# Altium schematic symbol library op-amp.SCHLIB: 32 symbols
Pins are listed as number, name and electrical type; pins without a type are passive.

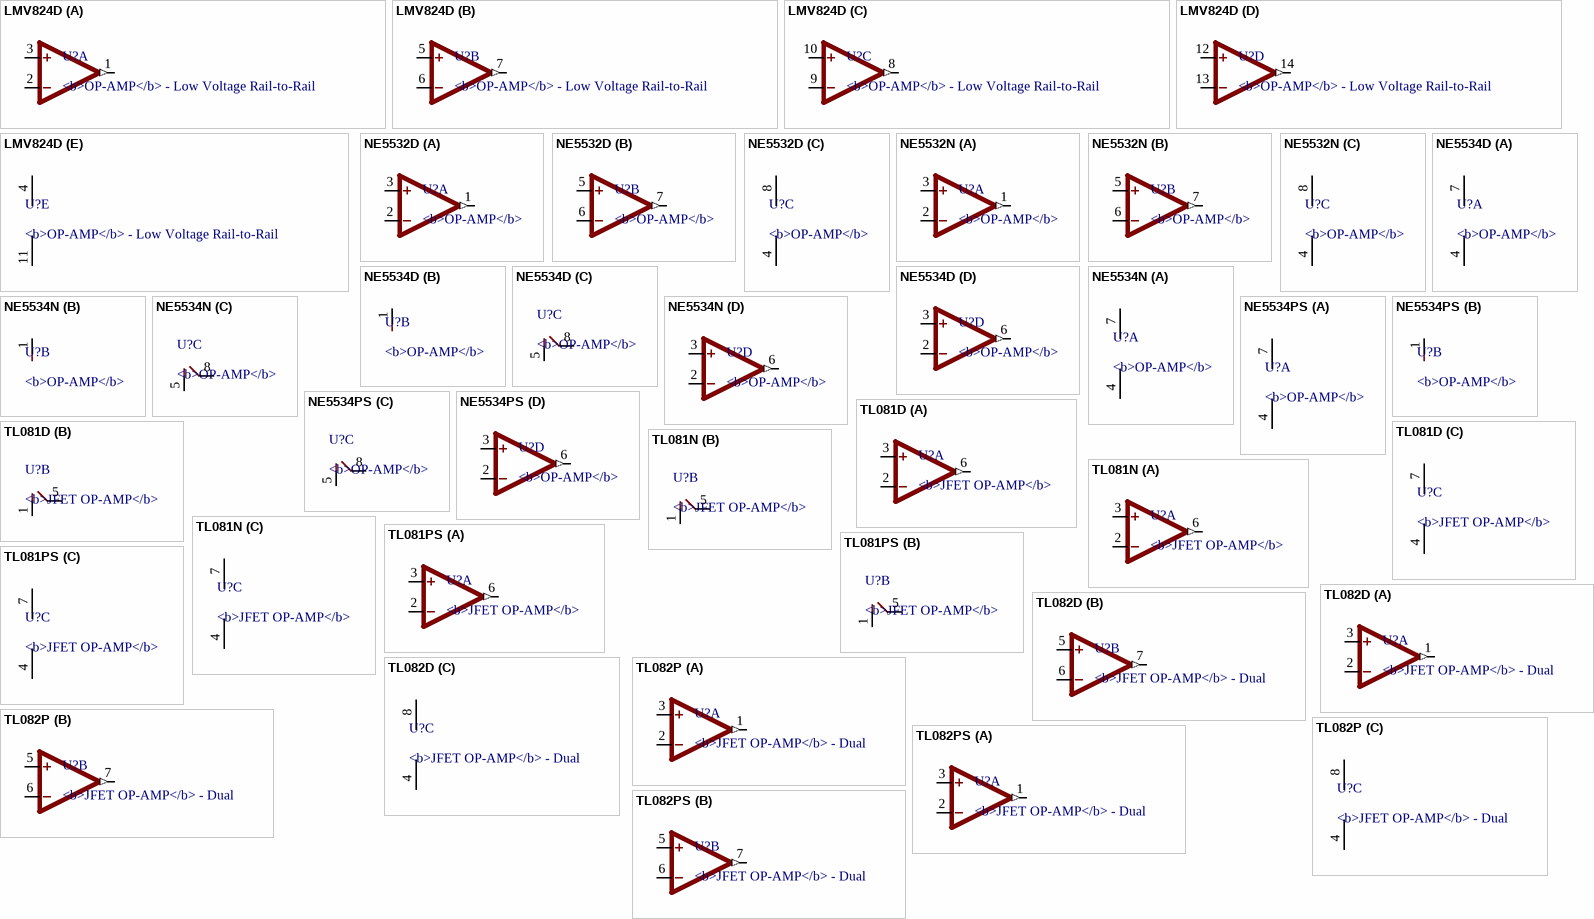
[diagram p0: symbols LMV824D to TL082PS]

## LMV824D
designator U?, comment <b>OP-AMP</b> - Low Voltage Rail-to-Rail
footprint SO14
part A pins: 1 OUT (out), 2 -IN, 3 +IN
part B pins: 5 +IN, 6 -IN, 7 OUT (out)
part C pins: 8 OUT (out), 9 -IN, 10 +IN
part D pins: 12 +IN, 13 -IN, 14 OUT (out)
part E pins: 4 VCC+ (power), 11 VCC- (power)

## NE5532D
designator U?, comment <b>OP-AMP</b>
footprint SO08
part A pins: 1 OUT (out), 2 -IN, 3 +IN
part B pins: 5 +IN, 6 -IN, 7 OUT (out)
part C pins: 4 V- (power), 8 V+ (power)

## NE5532N
designator U?, comment <b>OP-AMP</b>
footprint DIL08
part A pins: 1 OUT (out), 2 -IN, 3 +IN
part B pins: 5 +IN, 6 -IN, 7 OUT (out)
part C pins: 4 V- (power), 8 V+ (power)

## NE5534D
designator U?, comment <b>OP-AMP</b>
footprint SO08
part A pins: 4 V- (power), 7 V+ (power)
part B pins: 1 BAL
part C pins: 5 CMP, 8 BAL/CMP
part D pins: 2 -IN, 3 +IN, 6 OUT (out)

## NE5534N
designator U?, comment <b>OP-AMP</b>
footprint DIL08
part A pins: 4 V- (power), 7 V+ (power)
part B pins: 1 BAL
part C pins: 5 CMP, 8 BAL/CMP
part D pins: 2 -IN, 3 +IN, 6 OUT (out)

## NE5534PS
designator U?, comment <b>OP-AMP</b>
footprint SOP08
part A pins: 4 V- (power), 7 V+ (power)
part B pins: 1 BAL
part C pins: 5 CMP, 8 BAL/CMP
part D pins: 2 -IN, 3 +IN, 6 OUT (out)

## TL081D
designator U?, comment <b>JFET OP-AMP</b>
footprint SO08
part A pins: 2 -IN, 3 +IN, 6 OUT (out)
part B pins: 1 NULL1, 5 NULL2
part C pins: 4 V- (power), 7 V+ (power)

## TL081N
designator U?, comment <b>JFET OP-AMP</b>
footprint DIL08
part A pins: 2 -IN, 3 +IN, 6 OUT (out)
part B pins: 1 NULL1, 5 NULL2
part C pins: 4 V- (power), 7 V+ (power)

## TL081PS
designator U?, comment <b>JFET OP-AMP</b>
footprint SO08
part A pins: 2 -IN, 3 +IN, 6 OUT (out)
part B pins: 1 NULL1, 5 NULL2
part C pins: 4 V- (power), 7 V+ (power)

## TL082D
designator U?, comment <b>JFET OP-AMP</b> - Dual
footprint SO08
part A pins: 1 OUT (out), 2 -IN, 3 +IN
part B pins: 5 +IN, 6 -IN, 7 OUT (out)
part C pins: 4 V- (power), 8 V+ (power)

## TL082P
designator U?, comment <b>JFET OP-AMP</b> - Dual
footprint DIL08
part A pins: 1 OUT (out), 2 -IN, 3 +IN
part B pins: 5 +IN, 6 -IN, 7 OUT (out)
part C pins: 4 V- (power), 8 V+ (power)

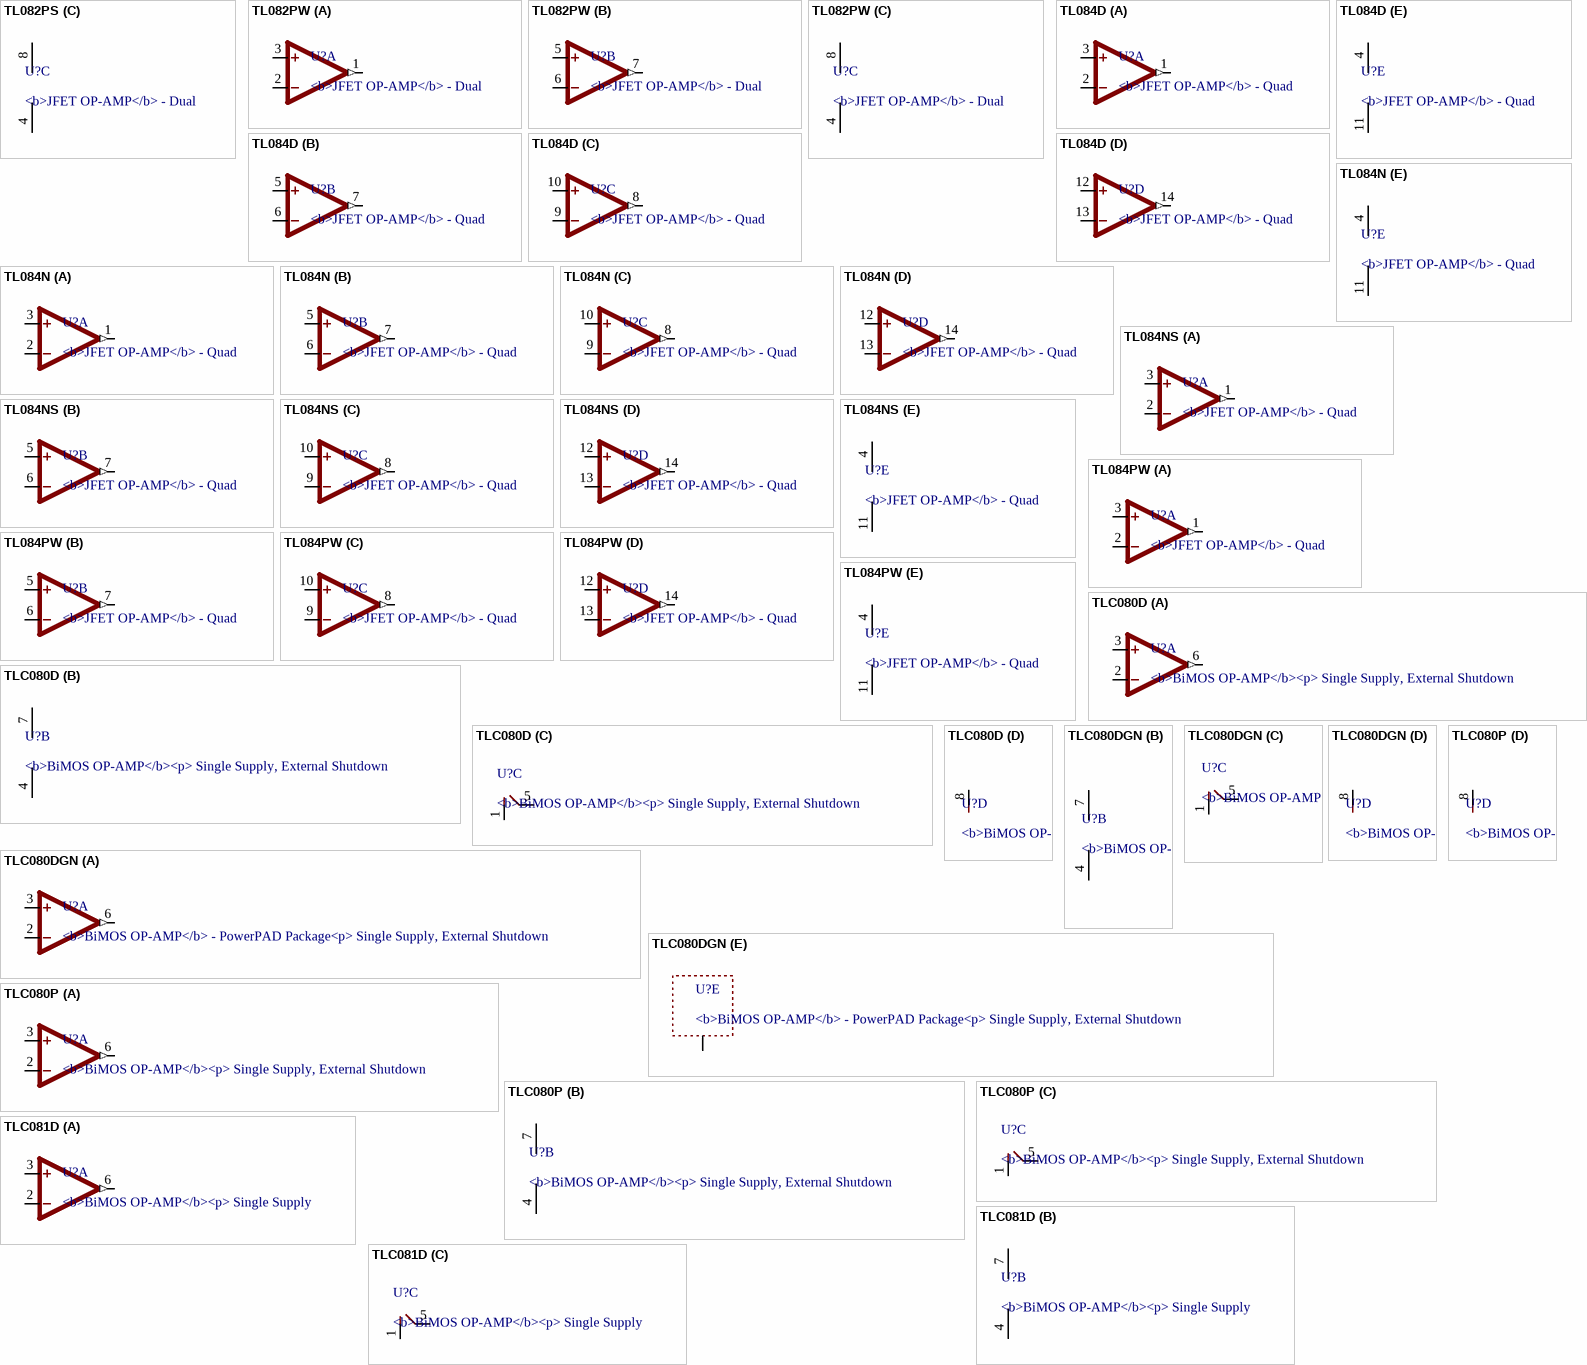
[diagram p1: symbols TL082PS to TLC081D]

## TL082PS
designator U?, comment <b>JFET OP-AMP</b> - Dual
footprint SOP08
part A pins: 1 OUT (out), 2 -IN, 3 +IN
part B pins: 5 +IN, 6 -IN, 7 OUT (out)
part C pins: 4 V- (power), 8 V+ (power)

## TL082PW
designator U?, comment <b>JFET OP-AMP</b> - Dual
footprint TSSOP8
part A pins: 1 OUT (out), 2 -IN, 3 +IN
part B pins: 5 +IN, 6 -IN, 7 OUT (out)
part C pins: 4 V- (power), 8 V+ (power)

## TL084D
designator U?, comment <b>JFET OP-AMP</b> - Quad
footprint SO14
part A pins: 1 OUT (out), 2 -IN, 3 +IN
part B pins: 5 +IN, 6 -IN, 7 OUT (out)
part C pins: 8 OUT (out), 9 -IN, 10 +IN
part D pins: 12 +IN, 13 -IN, 14 OUT (out)
part E pins: 4 V+ (power), 11 V- (power)

## TL084N
designator U?, comment <b>JFET OP-AMP</b> - Quad
footprint DIL14
part A pins: 1 OUT (out), 2 -IN, 3 +IN
part B pins: 5 +IN, 6 -IN, 7 OUT (out)
part C pins: 8 OUT (out), 9 -IN, 10 +IN
part D pins: 12 +IN, 13 -IN, 14 OUT (out)
part E pins: 4 V+ (power), 11 V- (power)

## TL084NS
designator U?, comment <b>JFET OP-AMP</b> - Quad
footprint SOP14
part A pins: 1 OUT (out), 2 -IN, 3 +IN
part B pins: 5 +IN, 6 -IN, 7 OUT (out)
part C pins: 8 OUT (out), 9 -IN, 10 +IN
part D pins: 12 +IN, 13 -IN, 14 OUT (out)
part E pins: 4 V+ (power), 11 V- (power)

## TL084PW
designator U?, comment <b>JFET OP-AMP</b> - Quad
footprint TSSOP14
part A pins: 1 OUT (out), 2 -IN, 3 +IN
part B pins: 5 +IN, 6 -IN, 7 OUT (out)
part C pins: 8 OUT (out), 9 -IN, 10 +IN
part D pins: 12 +IN, 13 -IN, 14 OUT (out)
part E pins: 4 V+ (power), 11 V- (power)

## TLC080D
designator U?, comment <b>BiMOS OP-AMP</b><p> / Single Supply, External Shutdown
footprint SO08
part A pins: 2 -IN, 3 +IN, 6 OUT (out)
part B pins: 4 GND (power), 7 VDD (power)
part C pins: 1 NULL1, 5 NULL2
part D pins: 8 SHDN

## TLC080DGN
designator U?, comment <b>BiMOS OP-AMP</b> - PowerPAD Package<p> / Single Supply, External Shutdown
footprint MSOP08-POWERPAD
part A pins: 2 -IN, 3 +IN, 6 OUT (out)
part B pins: 4 GND (power), 7 VDD (power)
part C pins: 1 NULL1, 5 NULL2
part D pins: 8 SHDN
part E pins: TP (power)

## TLC080P
designator U?, comment <b>BiMOS OP-AMP</b><p> / Single Supply, External Shutdown
footprint DIL08
part A pins: 2 -IN, 3 +IN, 6 OUT (out)
part B pins: 4 GND (power), 7 VDD (power)
part C pins: 1 NULL1, 5 NULL2
part D pins: 8 SHDN

## TLC081D
designator U?, comment <b>BiMOS OP-AMP</b><p> / Single Supply
footprint SO08
part A pins: 2 -IN, 3 +IN, 6 OUT (out)
part B pins: 4 GND (power), 7 VDD (power)
part C pins: 1 NULL1, 5 NULL2

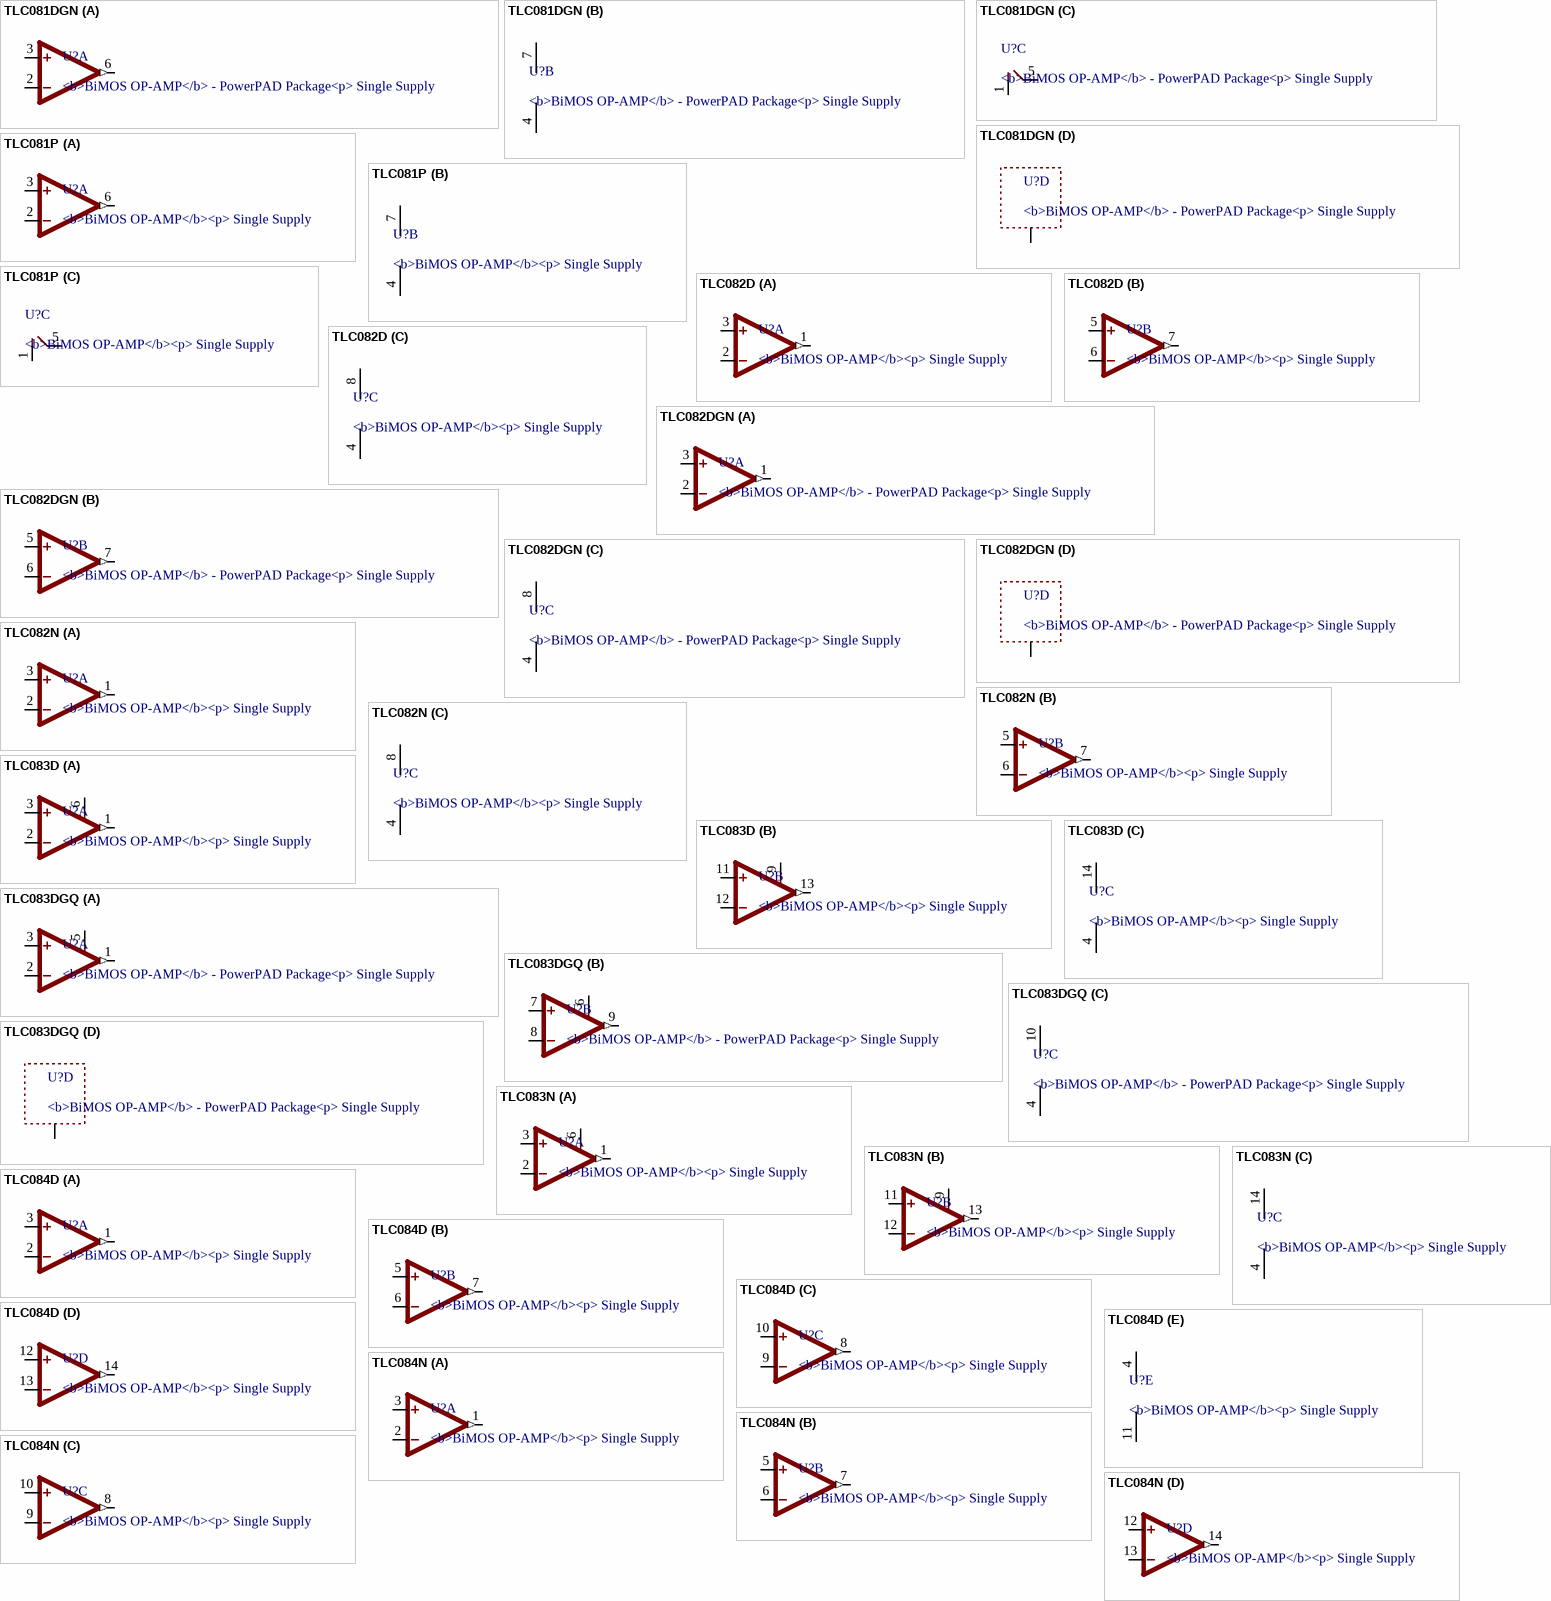
[diagram p2: symbols TLC081DGN to TLC084N]

## TLC081DGN
designator U?, comment <b>BiMOS OP-AMP</b> - PowerPAD Package<p> / Single Supply
footprint MSOP08-POWERPAD
part A pins: 2 -IN, 3 +IN, 6 OUT (out)
part B pins: 4 GND (power), 7 VDD (power)
part C pins: 1 NULL1, 5 NULL2
part D pins: TP (power)

## TLC081P
designator U?, comment <b>BiMOS OP-AMP</b><p> / Single Supply
footprint DIL08
part A pins: 2 -IN, 3 +IN, 6 OUT (out)
part B pins: 4 GND (power), 7 VDD (power)
part C pins: 1 NULL1, 5 NULL2

## TLC082D
designator U?, comment <b>BiMOS OP-AMP</b><p> / Single Supply
footprint SO08
part A pins: 1 OUT (out), 2 -IN, 3 +IN
part B pins: 5 +IN, 6 -IN, 7 OUT (out)
part C pins: 4 GND (power), 8 VDD (power)

## TLC082DGN
designator U?, comment <b>BiMOS OP-AMP</b> - PowerPAD Package<p> / Single Supply
footprint MSOP08-POWERPAD
part A pins: 1 OUT (out), 2 -IN, 3 +IN
part B pins: 5 +IN, 6 -IN, 7 OUT (out)
part C pins: 4 GND (power), 8 VDD (power)
part D pins: TP (power)

## TLC082N
designator U?, comment <b>BiMOS OP-AMP</b><p> / Single Supply
footprint DIL08
part A pins: 1 OUT (out), 2 -IN, 3 +IN
part B pins: 5 +IN, 6 -IN, 7 OUT (out)
part C pins: 4 GND (power), 8 VDD (power)

## TLC083D
designator U?, comment <b>BiMOS OP-AMP</b><p> / Single Supply
footprint SO14
part A pins: 1 OUT (out), 2 -IN, 3 +IN, 6 SHDN
part B pins: 9 SHDN, 11 +IN, 12 -IN, 13 OUT (out)
part C pins: 4 GND (power), 14 VDD (power)

## TLC083DGQ
designator U?, comment <b>BiMOS OP-AMP</b> - PowerPAD Package<p> / Single Supply
footprint MSOP10-POWERPAD
part A pins: 1 OUT (out), 2 -IN, 3 +IN, 5 SHDN
part B pins: 6 SHDN, 7 +IN, 8 -IN, 9 OUT (out)
part C pins: 4 GND (power), 10 VDD (power)
part D pins: TP (power)

## TLC083N
designator U?, comment <b>BiMOS OP-AMP</b><p> / Single Supply
footprint DIL14
part A pins: 1 OUT (out), 2 -IN, 3 +IN, 6 SHDN
part B pins: 9 SHDN, 11 +IN, 12 -IN, 13 OUT (out)
part C pins: 4 GND (power), 14 VDD (power)

## TLC084D
designator U?, comment <b>BiMOS OP-AMP</b><p> / Single Supply
footprint SO14
part A pins: 1 OUT (out), 2 -IN, 3 +IN
part B pins: 5 +IN, 6 -IN, 7 OUT (out)
part C pins: 8 OUT (out), 9 -IN, 10 +IN
part D pins: 12 +IN, 13 -IN, 14 OUT (out)
part E pins: 4 VDD (power), 11 GND (power)

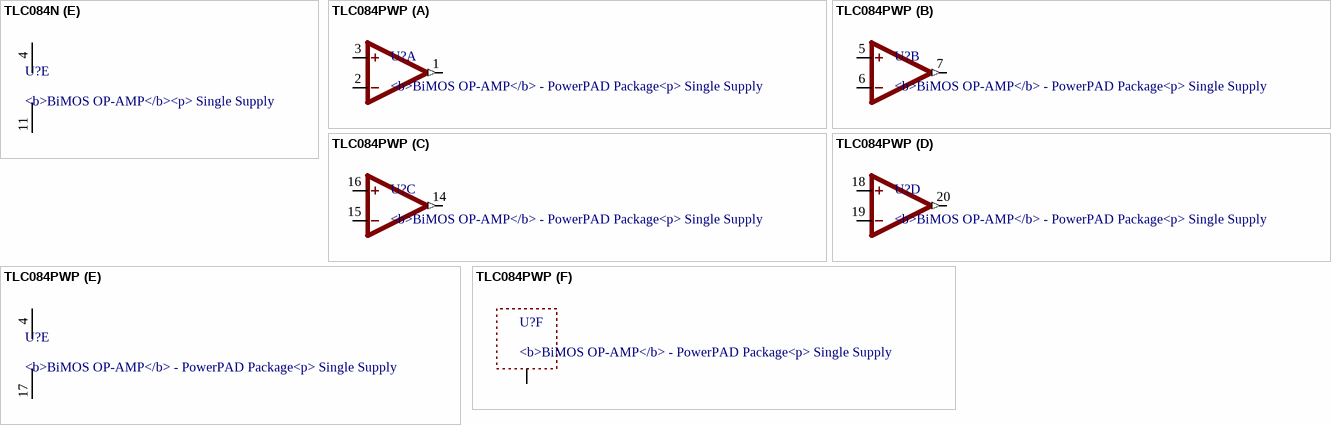
[diagram p3: symbols TLC084N to TLC084PWP]

## TLC084N
designator U?, comment <b>BiMOS OP-AMP</b><p> / Single Supply
footprint DIL14
part A pins: 1 OUT (out), 2 -IN, 3 +IN
part B pins: 5 +IN, 6 -IN, 7 OUT (out)
part C pins: 8 OUT (out), 9 -IN, 10 +IN
part D pins: 12 +IN, 13 -IN, 14 OUT (out)
part E pins: 4 VDD (power), 11 GND (power)

## TLC084PWP
designator U?, comment <b>BiMOS OP-AMP</b> - PowerPAD Package<p> / Single Supply
footprint HTSSOP20
part A pins: 1 OUT (out), 2 -IN, 3 +IN
part B pins: 5 +IN, 6 -IN, 7 OUT (out)
part C pins: 14 OUT (out), 15 -IN, 16 +IN
part D pins: 18 +IN, 19 -IN, 20 OUT (out)
part E pins: 4 VDD (power), 17 GND (power)
part F pins: TP (power)